# Altium schematic symbol library MSP430G2553_28 SOP.SchLib: 1 symbol
Pins are listed as number, name and electrical type; pins without a type are passive.

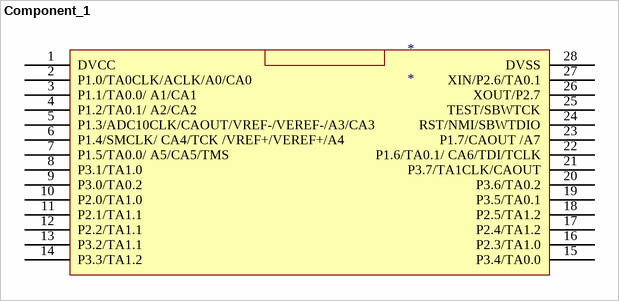
[diagram p0: symbol Component_1]

## Component_1
designator *
footprint TSOP65P640X120-28N (TSOP, 28-Leads, Body 9.60x4.40mm, Pitch 0.65mm, IPC Medium Density)
pins: 1 DVCC, 2 P1.0/TA0CLK/ACLK/A0/CA0, 3 P1.1/TA0.0/ A1/CA1, 4 P1.2/TA0.1/ A2/CA2, 5 P1.3/ADC10CLK/CAOUT/VREF-/VEREF-/A3/CA3, 6 P1.4/SMCLK/ CA4/TCK /VREF+/VEREF+/A4, 7 P1.5/TA0.0/ A5/CA5/TMS, 8 P3.1/TA1.0, 9 P3.0/TA0.2, 10 P2.0/TA1.0, 11 P2.1/TA1.1, 12 P2.2/TA1.1, 13 P3.2/TA1.1, 14 P3.3/TA1.2, 15 P3.4/TA0.0, 16 P2.3/TA1.0, 17 P2.4/TA1.2, 18 P2.5/TA1.2, 19 P3.5/TA0.1, 20 P3.6/TA0.2, 21 P3.7/TA1CLK/CAOUT, 22 P1.6/TA0.1/ CA6/TDI/TCLK, 23 P1.7/CAOUT /A7, 24 RST/NMI/SBWTDIO, 25 TEST/SBWTCK, 26 XOUT/P2.7, 27 XIN/P2.6/TA0.1, 28 DVSS